# Altium schematic symbol library SIM7600CE.SchLib: 1 symbol
Pins are listed as number, name and electrical type; pins without a type are passive.

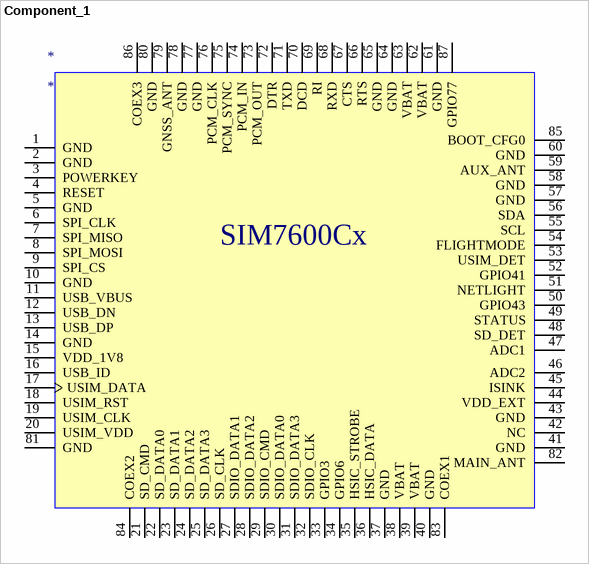
[diagram p0: symbol Component_1]

## Component_1
designator *
pins: 1 GND, 2 GND, 3 POWERKEY, 4 RESET, 5 GND, 6 SPI_CLK, 7 SPI_MISO, 8 SPI_MOSI, 9 SPI_CS, 10 GND, 11 USB_VBUS, 12 USB_DN, 13 USB_DP, 14 GND, 15 VDD_1V8, 16 USB_ID, 17 USIM_DATA, 18 USIM_RST, 19 USIM_CLK, 20 USIM_VDD, 21 SD_CMD, 22 SD_DATA0, 23 SD_DATA1, 24 SD_DATA2, 25 SD_DATA3, 26 SD_CLK, 27 SDIO_DATA1, 28 SDIO_DATA2, 29 SDIO_CMD, 30 SDIO_DATA0, 31 SDIO_DATA3, 32 SDIO_CLK, 33 GPIO3, 34 GPIO6, 35 HSIC_STROBE, 36 HSIC_DATA, 37 GND, 38 VBAT, 39 VBAT, 40 GND, 41 GND, 42 NC, 43 GND, 44 VDD_EXT, 45 ISINK, 46 ADC2, 47 ADC1, 48 SD_DET, 49 STATUS, 50 GPIO43, 51 NETLIGHT, 52 GPIO41, 53 USIM_DET, 54 FLIGHTMODE, 55 SCL, 56 SDA, 57 GND, 58 GND, 59 AUX_ANT, 60 GND, 61 GND, 62 VBAT, 63 VBAT, 64 GND, 65 GND, 66 RTS, 67 CTS, 68 RXD, 69 RI, 70 DCD, 71 TXD, 72 DTR, 73 PCM_OUT, 74 PCM_IN, 75 PCM_SYNC, 76 PCM_CLK, 77 GND, 78 GND, 79 GNSS_ANT, 80 GND, 81 GND, 82 MAIN_ANT, 83 COEX1, 84 COEX2, 85 BOOT_CFG0, 86 COEX3, 87 GPIO77
text: SIM7600Cx